# Altium footprint library PCB - CONNECTOR - PHOENIX - PHOENIX 1727081.PcbLib: 1 footprints
Each footprint in its own frame and in the unit in brackets; x right, y up, seen from the top. Pads: shape width x height; smd on the part's side, far side on the other; paste and mask are expansions set on the pad; w line width, h text height; cw(c..) or ccw(c..) is an arc to the next point about the centre after c.
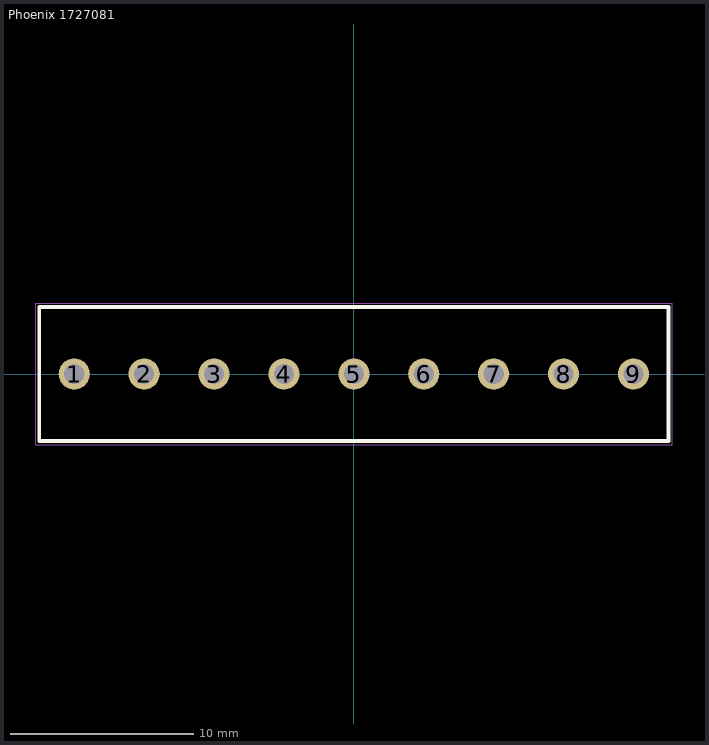
[diagram p0: the footprint, top view; thin cyan lines are the x and y axes]

## Phoenix 1727081 [mm] "Wire to Board Terminal Block Horizontal with Board Through Hole, 9 Position,3.81 mm Pitch, 34.29x7.3 mm Body"
height 8.5
pads (9):
  round 1.7 hole 1.1: 1(-15.24,0) 2(-11.43,0) 3(-7.62,0) 4(-3.81,0) 5(0,0) 6(3.81,0) 7(7.62,0) 8(11.43,0) 9(15.24,0)
Top Overlay:
  lines w0.2: -17.145,-3.65 -17.145,3.65 17.145,3.65 17.145,-3.65 -17.145,-3.65
Mechanical 1:
  lines w0.1: -17.145,-3.65 -17.145,3.65 17.145,3.65 17.145,-3.65 -17.145,-3.65
Mechanical 15 (Mech15):
  lines w0.05: -17.335,-3.85 -17.335,3.85 17.35,3.85 17.35,-3.85 -17.335,-3.85
3D body "Phoenix Contact - 1727081 v2.step": height 8.5, standoff -3.5, extent -17.145,-3.65 17.145,3.65